# Altium footprint library footprints.PcbLib: 10 footprints
Each footprint in its own frame and in the unit in brackets; x right, y up, seen from the top. Pads: shape width x height; smd on the part's side, far side on the other; paste and mask are expansions set on the pad; w line width, h text height; cw(c..) or ccw(c..) is an arc to the next point about the centre after c.
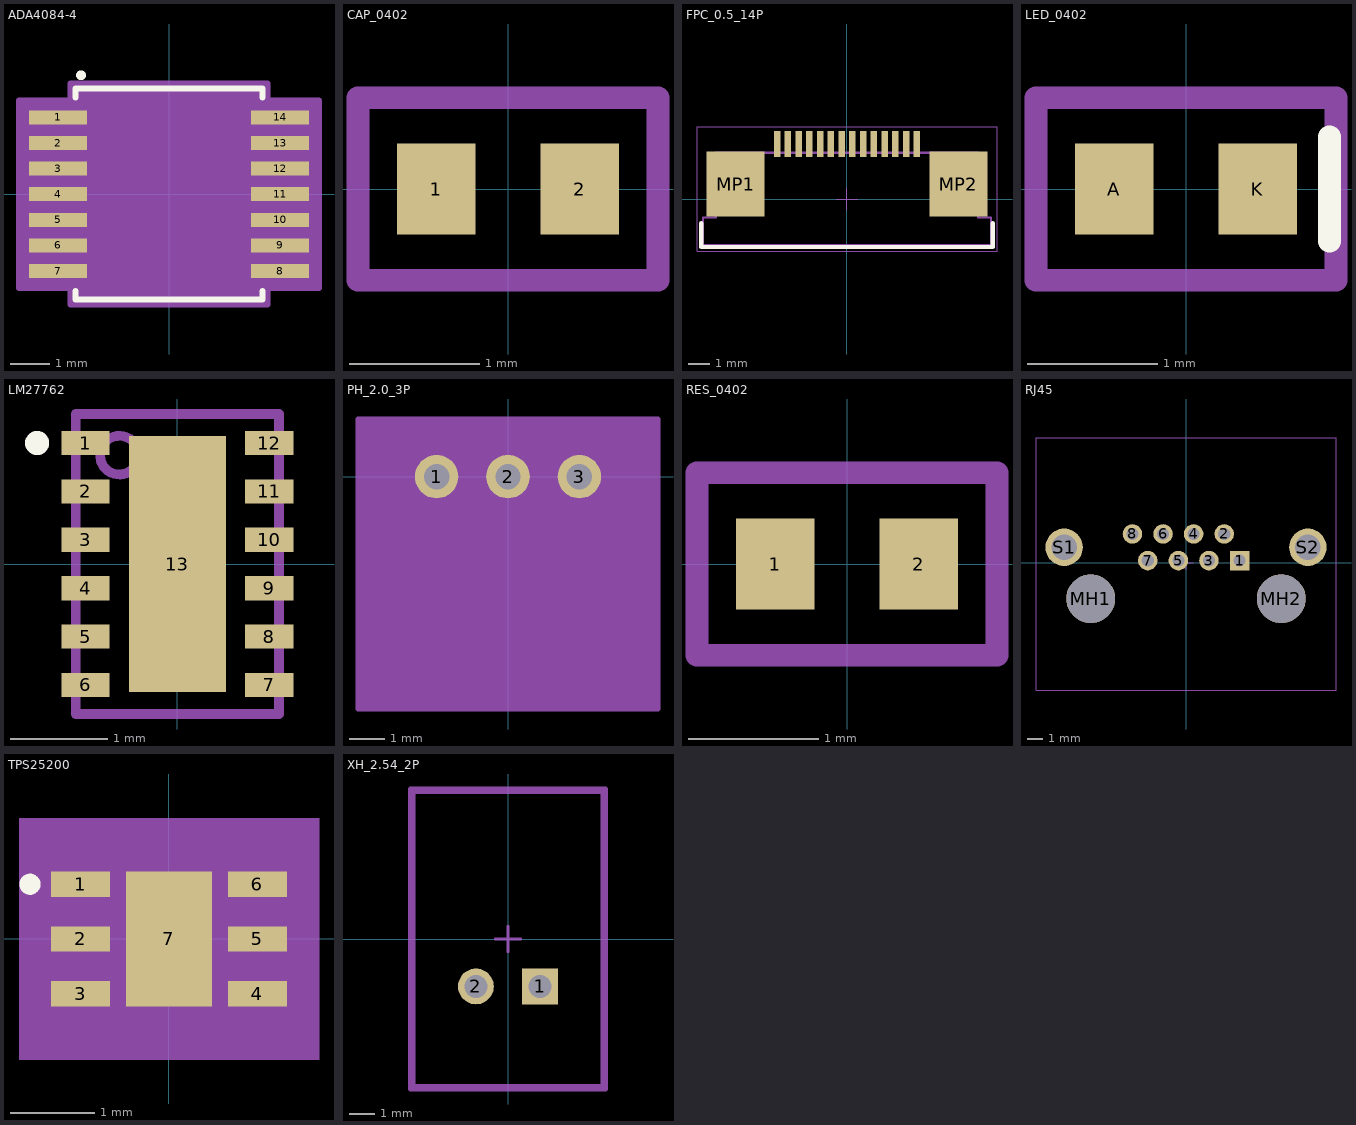
[diagram p0: the footprints below, top view; thin cyan lines are the x and y axes]

## ADA4084-4 [mil]
pads (14):
  rect 58x14 smd paste+0 mask+0: 1(-111,76.77) 2(-111,51.18) 3(-111,25.59) 4(-111,0) 5(-111,-25.59) 6(-111,-51.18) 7(-111,-76.77) 8(111,-76.77) 9(111,-51.18) 10(111,-25.59) 11(111,0) 12(111,25.59) 13(111,51.18) 14(111,76.77)
Top Overlay:
  circle w5.91: c-88,119 r1.97
  lines w6: -93.5,-96.87 -93.5,-105.5 93.5,-105.5 93.5,-96.87 ; -93.5,96.87 -93.5,105.5 93.5,105.5 93.5,96.87
Mechanical 13:
  lines w0: -12,100.5 ccw(c0,100.5) 12,100.5
  lines w1: -126,-82.77 -88.5,-82.77 -88.5,-70.77 -126,-70.77 -126,-82.77 ; -126,-57.18 -88.5,-57.18 -88.5,-45.18 -126,-45.18 -126,-57.18 ; -126,-31.59 -88.5,-31.59 -88.5,-19.59 -126,-19.59 -126,-31.59 ; -126,-6 -88.5,-6 -88.5,6 -126,6 -126,-6 ; -126,19.59 -88.5,19.59 -88.5,31.59 -126,31.59 -126,19.59 ; -126,45.18 -88.5,45.18 -88.5,57.18 -126,57.18 -126,45.18 ; -126,70.77 -88.5,70.77 -88.5,82.77 -126,82.77 -126,70.77 ; -88.5,-100.5 -88.5,100.5 88.5,100.5 88.5,-100.5 -88.5,-100.5 ; 88.5,-82.77 126,-82.77 126,-70.77 88.5,-70.77 88.5,-82.77 ; 88.5,-57.18 126,-57.18 126,-45.18 88.5,-45.18 88.5,-57.18 ; 88.5,-31.59 126,-31.59 126,-19.59 88.5,-19.59 88.5,-31.59 ; 88.5,-6 126,-6 126,6 88.5,6 88.5,-6 ; 88.5,19.59 126,19.59 126,31.59 88.5,31.59 88.5,19.59 ; 88.5,45.18 126,45.18 126,57.18 88.5,57.18 88.5,45.18 ; 88.5,70.77 126,70.77 126,82.77 88.5,82.77 88.5,70.77
  text "*" at -86,47.5 h50
Mechanical 15:
  region: -98.5,-93.77 -150,-93.77 -150,93.77 -98.5,93.77 -98.5,110.5 98.5,110.5 98.5,93.77 150,93.77 150,-93.77 98.5,-93.77 98.5,-110.5 -98.5,-110.5
  lines w6: -150,-93.77 -98.5,-93.77 -98.5,-110.5 98.5,-110.5 98.5,-93.77 150,-93.77 150,93.77 98.5,93.77 98.5,110.5 -98.5,110.5 -98.5,93.77 -150,93.77 -150,-93.77
3D body "RU_14_ADI.step": height 47.09, standoff 0, extent -125.98,-100.51 125.98,100.51

## CAP_0402 [mm]
pads (2):
  rect 0.6x0.7 smd mask+0.076: 1(-0.55,0) 2(0.55,0)
Mechanical 13:
  lines w0.175: -1.15,-0.7 1.15,-0.7 1.15,0.7 -1.15,0.7 -1.15,-0.7
3D body "C0402.step": height 0.37, standoff 0.01, extent -0.5,-0.265 0.5,0.265

## FPC_0.5_14P [mm]
height 2.25
pads (16):
  rect 0.3x1.2 smd: 1(-3.25,2.56) 2(-2.75,2.56) 3(-2.25,2.56) 4(-1.75,2.56) 5(-1.25,2.56) 6(-0.75,2.56) 7(-0.25,2.56) 8(0.25,2.56) 9(0.75,2.56) 10(1.25,2.56) 11(1.75,2.56) 12(2.25,2.56) 13(2.75,2.56) 14(3.25,2.56)
  rect 2.7x3 smd: MP1(-5.18,0.7) MP2(5.18,0.7)
Top Overlay:
  lines w0.2: -6.775,-1.125 -6.775,-2.225 6.775,-2.225 6.775,-1.125
Mechanical 13:
  lines w0.1: -6.7,-2.15 -6.7,-0.85 -6.1,-0.85 -6.1,2.15 6.1,2.15 6.1,-0.85 6.7,-0.85 6.7,-2.15 -6.7,-2.15
Mechanical 15:
  lines w0.05: -0.5,0 0.5,0 ; 0,-0.5 0,0.5 ; -6.975,-2.425 6.975,-2.425 6.975,3.36 -6.975,3.36 -6.975,-2.425
3D body "68711414522.stp": height 2.1, standoff 0, extent -6.7,-2.15 6.7,2.95

## LED_0402 [mm]
pads (2):
  rect 0.6x0.7 smd mask+0.076: A(-0.55,0) K(0.55,0)
Top Overlay:
  lines w0.175: 1.1,-0.4 1.1,0.4
Mechanical 13:
  lines w0.175: -1.15,-0.7 -1.15,0.7 1.15,0.7 1.15,-0.7 -1.15,-0.7
3D body "LED0402-Blue.step": height 0.45, standoff 0, extent -0.505,-0.25 0.505,0.25

## LM27762 [mm]
pads (13):
  rect 0.5x0.25 smd paste+0 mask+0.05: 1(-0.95,1.25) 2(-0.95,0.75) 3(-0.95,0.25) 4(-0.95,-0.25) 5(-0.95,-0.75) 6(-0.95,-1.25) 7(0.95,-1.25) 8(0.95,-0.75) 9(0.95,-0.25) 10(0.95,0.25) 11(0.95,0.75) 12(0.95,1.25)
  rect 1x2.65 smd paste-0.5 mask+0.048: 13(0,0)
Top Overlay:
  circle w0.15: c-1.45,1.25 r0.05
Top Paste:
  region: -0.473,0.142 -0.474,0.152 -0.474,1.216 -0.473,1.226 -0.471,1.236 -0.466,1.245 -0.459,1.253 -0.451,1.259 -0.442,1.264 -0.432,1.267 -0.422,1.268 0.422,1.268 0.432,1.267 0.442,1.264 0.451,1.259 0.459,1.253 0.466,1.245 0.471,1.236 0.473,1.226 0.474,1.216 0.474,0.152 0.473,0.142 0.471,0.132 0.466,0.123 0.459,0.115 0.451,0.109 0.442,0.104 0.432,0.101 0.422,0.1 -0.422,0.1 -0.432,0.101 -0.442,0.104 -0.451,0.109 -0.459,0.115 -0.466,0.123 -0.471,0.132
  region: -0.473,-1.226 -0.474,-1.216 -0.474,-0.152 -0.473,-0.142 -0.471,-0.132 -0.466,-0.123 -0.459,-0.115 -0.451,-0.109 -0.442,-0.104 -0.432,-0.101 -0.422,-0.1 0.422,-0.1 0.432,-0.101 0.442,-0.104 0.451,-0.109 0.459,-0.115 0.466,-0.123 0.471,-0.132 0.473,-0.142 0.474,-0.152 0.474,-1.216 0.473,-1.226 0.471,-1.236 0.466,-1.245 0.459,-1.253 0.451,-1.259 0.442,-1.264 0.432,-1.267 0.422,-1.268 -0.422,-1.268 -0.432,-1.267 -0.442,-1.264 -0.451,-1.259 -0.459,-1.253 -0.466,-1.245 -0.471,-1.236
Mechanical 13:
  circle w0.1: c-0.6,1.125 r0.2
  lines w0.1: -1.05,-1.55 -1.05,1.55 1.05,1.55 1.05,-1.55 -1.05,-1.55
3D body: height 0.25, standoff 0, extent 0,0 0.254,0.254
3D body "DSS0012B.stp": height 0.8, standoff 0, extent -1,-1.5 1,1.5

## PH_2.0_3P [mil]
pads (3):
  round 48 / inner round 60 / far side round 48 hole 28 paste-24 mask+0: 1(-78.74,0) 2(0,0) 3(78.74,0)
Mechanical 13:
  lines w1: -155.5,-245.85 -155.5,53.15 155.5,53.15 155.5,-245.85 -155.5,-245.85
Mechanical 15:
  region: 165.5,63.15 -165.5,63.15 -165.5,-255.85 165.5,-255.85
  lines w6: -165.5,-255.85 165.5,-255.85 165.5,63.15 -165.5,63.15 -165.5,-255.85

## RES_0402 [mm]
pads (2):
  rect 0.6x0.7 smd mask+0.076: 1(-0.55,0) 2(0.55,0)
Mechanical 13:
  lines w0.175: -1.15,-0.7 -1.15,0.7 1.15,0.7 1.15,-0.7 -1.15,-0.7
3D body "R0402.step": height 0.3, standoff 0, extent -0.5,-0.25 0.5,0.25

## RJ45 [mm]
height 13.25
pads (12):
  rect 1.3x1.3 hole 0.8: 1(3.57,0.125)
  round 1.3 hole 0.8: 2(2.55,1.905) 3(1.53,0.125) 4(0.51,1.905) 5(-0.51,0.125) 6(-1.53,1.905) 7(-2.55,0.125) 8(-3.57,1.905)
  round 3.25 hole 3.25 unplated: MH1(-6.35,-2.415) MH2(6.35,-2.415)
  round 2.5 hole 1.7: S1(-8.125,1.015) S2(8.125,1.015)
Mechanical 15:
  lines w0.05: -0.5,0 0.5,0 ; 0,-0.5 0,0.5 ; -10,-8.52 -10,8.32 10,8.32 10,-8.52 -10,-8.52
3D body "615008137421 (rev1).stp": height 15.13, standoff -3.31, extent -9.875,-8.33 9.875,8.12

## TPS25200 [mm]
pads (7):
  rect 0.7x0.3 smd paste-0.15 mask+0: 1(-1.05,0.65) 2(-1.05,0) 3(-1.05,-0.65) 4(1.05,-0.65) 5(1.05,0) 6(1.05,0.65)
  rect 1.016x1.6 smd paste-0.787 mask-0.787: 7(0,0)
Top Layer:
  region: 0,0.8
  region: 0,-0.8
Top Overlay:
  circle w0.15: c-1.65,0.65 r0.05
Top Paste:
  region: -0.1,0.725 -0.433,0.725 -0.433,0.494 -0.241,0.494 -0.1,0.635
  region: -0.241,0.294 -0.433,0.294 -0.433,-0.294 -0.241,-0.294 -0.1,-0.152 -0.1,0.152
  region: -0.241,-0.494 -0.433,-0.494 -0.433,-0.725 -0.1,-0.725 -0.1,-0.635
  region: 0.433,0.725 0.1,0.725 0.1,0.635 0.241,0.494 0.433,0.494
  region: 0.433,0.294 0.241,0.294 0.1,0.152 0.1,-0.152 0.241,-0.294 0.433,-0.294
  region: 0.433,-0.494 0.241,-0.494 0.1,-0.635 0.1,-0.725 0.433,-0.725
Top Solder:
  region: -0.572,0.594 -0.572,0.864 0.572,0.864 0.572,0.594
  region: -0.572,-0.194 -0.572,0.194 0.572,0.194 0.572,-0.194
  region: -0.572,-0.864 -0.572,-0.594 0.572,-0.594 0.572,-0.864
  region: -0.572,-0.864 -0.572,0.864 -0.2,0.864 -0.2,-0.864
  region: 0.2,-0.864 0.2,0.864 0.572,0.864 0.572,-0.864
  region: 0,0.8
  region: 0,-0.8
Mechanical 5:
  region: 1.781,-1.435 -1.781,-1.435 -1.781,1.435 1.781,1.435
Mechanical 13:
  lines w0: -0.305,1.054 ccw(c0,1.054) 0.305,1.054
  lines w0.025: -1.054,-1.054 1.054,-1.054 1.054,1.054 -1.054,1.054 -1.054,-1.054
Mechanical 15:
  region: -1.308,-1.054 -1.654,-1.054 -1.654,1.054 -1.308,1.054 -1.308,1.308 1.308,1.308 1.308,1.054 1.654,1.054 1.654,-1.054 1.308,-1.054 1.308,-1.308 -1.308,-1.308
  lines w0.152: -1.654,-1.054 -1.654,1.054 -1.308,1.054 -1.308,1.308 1.308,1.308 1.308,1.054 1.654,1.054 1.654,-1.054 1.308,-1.054 1.308,-1.308 -1.308,-1.308 -1.308,-1.054 -1.654,-1.054
3D body "DRV6_1X1P6_TEX.step": height 0.81, standoff 0, extent -1.054,-1.054 1.054,1.054

## XH_2.54_2P [mm]
pads (2):
  rect 1.4x1.4 hole 0.9 paste-1000 mask+0: 1(1.25,-1.85)
  round 1.4 hole 0.9 paste-1000 mask+0: 2(-1.25,-1.85)
Top 3D Body:
  lines w0.2: -3.7,-5.75 3.7,-5.75 3.7,5.75 -3.7,5.75 -3.7,-5.75
Top Assembly:
  lines w0.2: -3.8,-5.85 3.8,-5.85 3.8,5.85 -3.8,5.85 -3.8,-5.85
Top Courtyard:
  lines w0.2: -3.8,-5.85 3.8,-5.85 3.8,5.85 -3.8,5.85 -3.8,-5.85
Top Component Center:
  lines w0.1: -0.5,0 0.5,0 ; 0,-0.5 0,0.5
3D body "Conn_JST_S2B-XH-A-1_LF_SN_eec.STEP": height 0.25, standoff 0, extent -3.8,-5.85 3.8,5.85